# Altium schematic symbol library Yi Ping_Schlib.SchLib: 1 symbol
Pins are listed as number, name and electrical type; pins without a type are passive.

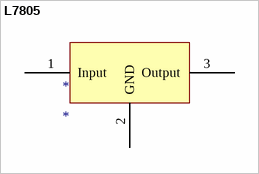
[diagram p0: symbol L7805]

## L7805
designator *
pins: 1 Input, 2 GND, 3 Output